# Altium schematic symbol library Connectors.SchLib: 37 symbols
Pins are listed as number, name and electrical type; pins without a type are passive.

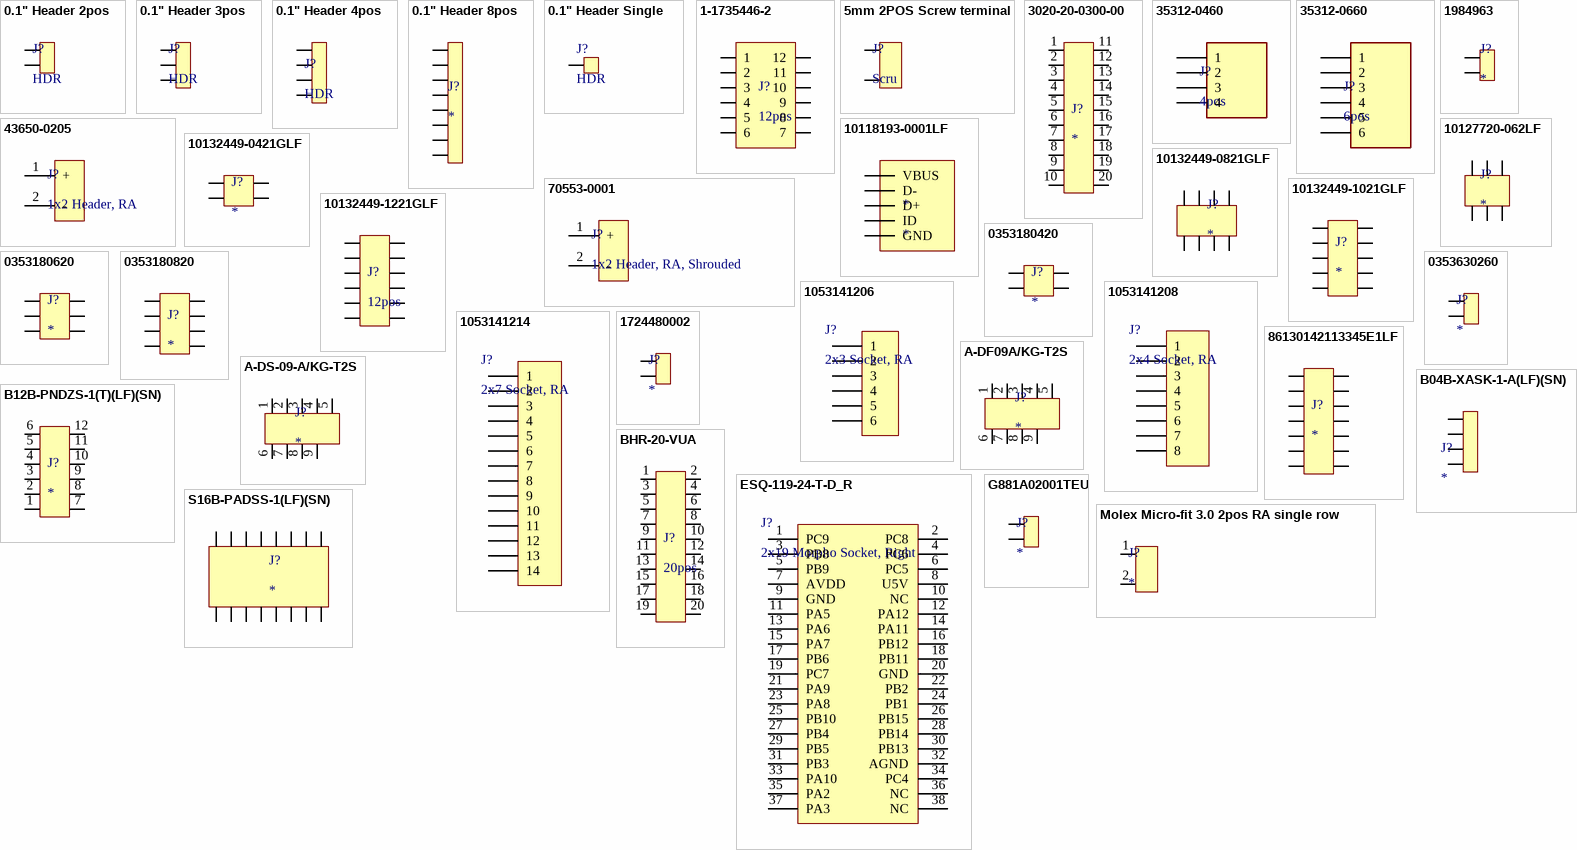
[diagram p0: symbols 0.1" Header 2pos to S16B-PADSS-1(LF)(SN)]

## 0.1" Header 2pos
designator J?, comment HDR
footprint 0.1" Header 2pos
pins: 1, 2

## 0.1" Header 3pos
designator J?, comment HDR
footprint 0.1" Header 3pos
pins: 1, 2, 3

## 0.1" Header 4pos
designator J?, comment HDR
footprint 0.1" Header 4pos
pins: 1, 2, 3, 4

## 0.1" Header 8pos
designator J?
footprint 0.1" Header 8pos
pins: 1, 2, 3, 4, 5, 6, 7, 8

## 0.1" Header Single
designator J?, comment HDR
footprint 0.1" Header 1pos
pins: 1

## 1-1735446-2
designator J?, comment 12pos
CONN HEADR 12PS 2MM VERT W/LATCH; Manufacturer: TE Connectivity; Manufacturer Part Number: 1-1735446-2; Number of Contacts: 12; Connector Type: Plug,Header,Pin; Wire/Cable Type: Discrete; Backwall/Post Interruptions: No (Without); Connector System: Wire-to-Board; Plating Thickness: 2.03um; Mating Retention: Yes (With); Contact Current Rating: 3A; PCB Mount Retention: With; PCB Mounting Orientation: Vertical; Pitch: 0.079inch; PCB Thickness: 1.6mm; Tail Length: 3.4mm; Contact Post Length: 0.134inch; Wire/Cable Gauge: 30AWG; Supplier 1: Digi-Key; Supplier Part Number 1: A100106-ND; RoHS: Yes; Category: Headers and Wire Housings; Stock 1: 38491; Mount: Through Hole; Contact Plating: Tin,Bright; Contact Material: Copper Alloy; Color: Natural; Housing Material: Thermoplastic; Contact Shape: Square; Housing Color: Natural; Min Operating Temperature: -25°C; Max Operating Temperature: 85°C; Number of Rows: 1; Termination: Through Hole; Contact Gender: Male; Package Quantity: 200; Packaging: Bag; Number of Positions: 12; Contact Retention: No (Without); PCB Mount Alignment: No (Without); Sealable: No (Without); Selectively Loaded: No (Without); Strain Relief: No (Without); Orientation: Straight; Length: 26mm; Height: 0.239inch; Contact Mating Length: 0.131inch; Width: 4.7mm; Radiation Hardening: No; Flammability Rating: UL94 V-0; ComponentLink1URL: https://datasheet.ciiva.com/11753/0900766b80f80743-11753693.pdf?src-supplier=RSComponents; ComponentLink1Description: https://datasheet.ciiva.com/11753/0900766b80f80743-11753693.pdf?src-supplier=RSComponents; ComponentLink2URL: https://datasheet.ciiva.com/732/eng-cd-1735446-c1-732557.pdf?src-supplier=Digi-Key; ComponentLink2Description: https://datasheet.ciiva.com/732/eng-cd-1735446-c1-732557.pdf?src-supplier=Digi-Key
footprint 1-1735446-2
pins: 1, 2, 3, 4, 5, 6, 7, 8, 9, 10, 11, 12

## 5mm 2POS Screw terminal
designator J?, comment Scru
footprint 5mm 2POS Screw terminal
pins: 1, 2

## 3020-20-0300-00
designator J?
CONN HEADER SMD 20POS 2.54MM
footprint 3020-20-0300-00
pins: 1, 2, 3, 4, 5, 6, 7, 8, 9, 10, 11, 12, 13, 14, 15, 16, 17, 18, 19, 20

## 35312-0460
designator J?, comment 4pos
GLOVE, POLYAMIDE, L/FREE, PU, SIZE 6 - More Details; Manufacturer: Molex; Manufacturer Part Number: 35312-0460; Number of Positions: 4; Contact Resistance: 20mR; Gender: Male; Current Rating: 3A; Voltage Rating: 250V; Pitch: 2.5mm; Contact Post Length: 3.4mm; Glow Wire Compliant: Non-compliant; Supplier 1: Digi-Key; Supplier Part Number 1: WM14766-ND; RoHS: Yes; Category: Headers and Wire Housings; Stock 1: 24375; Mount: Through Hole; Contact Material: Brass; Housing Material: Nylon; Contact Plating: Tin; Min Operating Temperature: -40°C; Max Operating Temperature: 105°C; Orientation: Vertical; Packaging: Bulk; Termination: Solder; Number of Contacts: 4; Number of Rows: 1; Package Quantity: 1000; Number of Circuits: 4; Contact Gender: Male; ComponentLink1URL: https://datasheet.ciiva.com/30061/206160353120460-pcb-headers-30061088.pdf?src-supplier=Onlinecomponents.com; ComponentLink1Description: https://datasheet.ciiva.com/30061/206160353120460-pcb-headers-30061088.pdf?src-supplier=Onlinecomponents.com; ComponentLink2URL: https://datasheet.ciiva.com/5152/0353120460-pcb-headers-163157-5152900.pdf?src-supplier=Mouser; ComponentLink2Description: https://datasheet.ciiva.com/5152/0353120460-pcb-headers-163157-5152900.pdf?src-supplier=Mouser; ComponentLink3URL: https://datasheet.ciiva.com/16102/275790353120460-pcb-headers-16102159.pdf?src-supplier=Onlinecomponents.com; ComponentLink3Description: https://datasheet.ciiva.com/16102/275790353120460-pcb-headers-16102159.pdf?src-supplier=Onlinecomponents.com
footprint 35312-0460
pins: 1, 2, 3, 4

## 35312-0660
designator J?, comment 6pos
2.50mm Pitch Header, Vertical, Shrouded, with Positive Lock, 6 Circuits, PA Polyamide (Nylon) 6/6, Glass-filled, Natural; Manufacturer: Molex; Manufacturer Part Number: 35312-0660; Number of Positions: 6; Contact Resistance: 20mR; Current Rating: 3A; Voltage Rating: 250V; Pitch: 2.5mm; Glow Wire Compliant: Non-compliant; Supplier 1: Digi-Key; Supplier Part Number 1: WM14768-ND; RoHS: Yes; Category: Headers and Wire Housings; Stock 1: 16847; Mount: Through Hole; Contact Plating: Tin; Housing Material: Nylon; Min Operating Temperature: -40°C; Max Operating Temperature: 105°C; Termination: Solder; Number of Contacts: 6; Packaging: Bulk; Package Quantity: 1000; Number of Rows: 1; Orientation: Vertical; Number of Circuits: 6; ComponentLink1URL: https://datasheet.ciiva.com/30184/251310353120660-pcb-headers-30184330.pdf?src-supplier=Onlinecomponents.com; ComponentLink1Description: https://datasheet.ciiva.com/30184/251310353120660-pcb-headers-30184330.pdf?src-supplier=Onlinecomponents.com; ComponentLink2URL: https://datasheet.ciiva.com/5158/0353120660-pcb-headers-163350-5158417.pdf?src-supplier=Mouser; ComponentLink2Description: https://datasheet.ciiva.com/5158/0353120660-pcb-headers-163350-5158417.pdf?src-supplier=Mouser
footprint 35312-0660
pins: 1, 2, 3, 4, 5, 6

## 43650-0205
designator J?, comment 1x2 Header, RA
HEADER, RIGHT ANGLE, 2WAY; Manufacturer: Molex; Manufacturer Part Number: 43650-0205; Number of Positions: 2; Voltage Rating: 600V; Current Rating: 5A; Gender: Male; Pitch: 3mm; Glow Wire Compliant: Compliant; Supplier 1: Digi-Key; Supplier Part Number 1: WM17581-ND; Stock 1: 2695; Pricing 1: 1 = 1.44000, 10 = 1.30500, 100 = 1.11870, 500 = 0.93222, 3927 = 0.74578, 7854 = 0.70849, 11781 = 0.69251 (USD); RoHS: Yes; Contact Material: Brass; Contact Plating: Gold; Housing Material: Thermoplastic; Number of Rows: 1; Packaging: Tray; Termination: Through Hole; Number of Contacts: 2; Orientation: Right Angle; Package Quantity: 3927; Number of Circuits: 2; Halogen Free: Low Halogen; ComponentLink1URL: http://www.farnell.com/cad/153635.pdf?src-supplier=Element14; ComponentLink1Description: http://www.farnell.com/cad/153635.pdf?src-supplier=Element14; ComponentLink2URL: http://www.molex.com/webdocs/datasheets/pdf/en-us/0436500205_PCB_HEADERS.pdf?src-supplier=Avnet; ComponentLink2Description: http://www.molex.com/webdocs/datasheets/pdf/en-us/0436500205_PCB_HEADERS.pdf?src-supplier=Avnet; ComponentLink3URL: http://www.molex.com/webdocs/datasheets/pdf/en-us/0436500205_PCB_HEADERS.pdf?src-supplier=Avnet+Europe; ComponentLink3Description: http://www.molex.com/webdocs/datasheets/pdf/en-us/0436500205_PCB_HEADERS.pdf?src-supplier=Avnet+Europe; ComponentLink4URL: http://www.mouser.com/ds/2/276/0436500205_PCB_HEADERS-148686.pdf?src-supplier=Mouser; ComponentLink4Description: http://www.mouser.com/ds/2/276/0436500205_PCB_HEADERS-148686.pdf?src-supplier=Mouser; Category: Connectors; ComponentLink5Description: Digikey; ComponentLink5URL: https://www.digikey.com/products/en?WT.z_cid=sp_900_0310_buynow&keywords=436500205
footprint Right Angle Header 43650-0205(Primary)
pins: 1 +, 2 -

## 70553-0001
designator J?, comment 1x2 Header, RA, Shrouded
Headers & Wire Housings R/A HDR 2P low profile single; Manufacturer: Molex; Manufacturer Part Number: 70553-0001; Number of Positions: 2; Gender: Male; Contact Resistance: 30mR; Current Rating: 3A; Voltage Rating: 250V; Insulation Resistance: 1GR; Pitch: 2.54mm; Approvals: UL; Glow Wire Compliant: Non-compliant; Supplier 1: Digi-Key; Supplier Part Number 1: WM4900-ND; Stock 1: 15280; Pricing 1: 1 = 0.71000, 72 = 0.53486, 144 = 0.51264, 504 = 0.44575, 1008 = 0.36775, 5040 = 0.32318, 10008 = 0.30089 (USD); RoHS: Yes; Mount: Through Hole; Color: Black; Housing Color: Black; Housing Material: Thermoplastic; Contact Material: Bronze; Contact Plating: Gold; Material: Brass; Min Operating Temperature: -40°C; Max Operating Temperature: 105°C; Number of Rows: 1; Packaging: Rail/Tube; Termination: Through Hole; Number of Contacts: 2; Orientation: Right Angle; Package Quantity: 2880; Number of Circuits: 2; Voltage Rating (DC): 250V; Radiation Hardening: No; Lead Free: Lead Free; REACH SVHC: Unknown; ELV: Compliant; Flammability Rating: UL94 V-0; ComponentLink1URL: https://datasheet.ciiva.com/5158/0705530001-pcb-headers-172944-5158768.pdf?src-supplier=Mouser; ComponentLink1Description: https://datasheet.ciiva.com/5158/0705530001-pcb-headers-172944-5158768.pdf?src-supplier=Mouser; ComponentLink2URL: https://datasheet.ciiva.com/11746/0900766b80d8d649-11746625.pdf?src-supplier=RSComponents; ComponentLink2Description: https://datasheet.ciiva.com/11746/0900766b80d8d649-11746625.pdf?src-supplier=RSComponents; ComponentLink3URL: https://datasheet.ciiva.com/16657/0705530001-pcb-headers-16657777.pdf?src-supplier=Avnet+Europe; ComponentLink3Description: https://datasheet.ciiva.com/16657/0705530001-pcb-headers-16657777.pdf?src-supplier=Avnet+Europe; ComponentLink4URL: https://datasheet.ciiva.com/7920/ps-70541-7920854.pdf?src-supplier=Element14; ComponentLink4Description: https://datasheet.ciiva.com/7920/ps-70541-7920854.pdf?src-supplier=Element14; ComponentLink5URL: https://datasheet.ciiva.com/30195/179180705530001-pcb-headers-30195548.pdf?src-supplier=Onlinecomponents.com; ComponentLink5Description: https://datasheet.ciiva.com/30195/179180705530001-pcb-headers-30195548.pdf?src-supplier=Onlinecomponents.com; ComponentLink6URL: https://datasheet.ciiva.com/1438/1887076-1438989.pdf?src-supplier=Element14; ComponentLink6Description: https://datasheet.ciiva.com/1438/1887076-1438989.pdf?src-supplier=Element14; ComponentLink7URL: https://datasheet.ciiva.com/10090/0705530001-pcb-headers-10090317.pdf?src-supplier=Avnet; ComponentLink7Description: https://datasheet.ciiva.com/10090/0705530001-pcb-headers-10090317.pdf?src-supplier=Avnet; Category: Connectors; ComponentLink8Description: Digikey; ComponentLink8URL: https://www.digikey.com/product-detail/en/molex/0705530001/WM4900-ND/114951
footprint MOLEX_0705530001
pins: 1 +, 2 -

## 1984963
designator J?
Fixed Terminal Blocks PTSA 1.5/ 2-3.5-F; Manufacturer: Phoenix Contact; Manufacturer Part Number: 1984963; Max Current Rating: 2A; Number of Levels: 1; Number of Positions Per Level: 2; Max Supply Voltage: 250V; Voltage: 300V; Voltage Rating: 200V; Pitch: 3.5mm; Wire Gauge (Max): 20AWG; Wire Gauge (Min): 16AWG; Stripping Length: 8mm; Approvals: UL,VDE; Supplier 1: Digi-Key; RoHS: Yes; Category: Terminal Blocks; Stock 1: 6713; Pricing 1: 1=0.32000, 10=0.30200, 50=0.28880, 100=0.28090, 250=0.26252, 500=0.24150, 1000=0.22313 (USD); Mount: Through Hole; Weight: 0.038096oz; Material: Nylon; Color: Green; Housing Color: Green; Housing Material: Polyamide; Number of Rows: 1; Current: 2A; Termination: Solder; Number of Positions: 2; Package Quantity: 250; Number of Contacts: 2; Number of Circuits: 2; Packaging: Bulk; Number of Poles: 2; Current Rating: 2A; Length: 8.5mm; Height: 13.1mm; Depth: 12mm; Wire/Cable Gauge: 16AWG; Radiation Hardening: No; Lead Free: Lead Free; Flammability Rating: UL94 V-2; ComponentLink1URL: https://datasheet.ciiva.com/26840/getdatasheetpartid-743885-26840594.pdf?src-supplier=Verical; ComponentLink1Description: https://datasheet.ciiva.com/26840/getdatasheetpartid-743885-26840594.pdf?src-supplier=Verical; ComponentLink2URL: https://datasheet.ciiva.com/11758/0900766b811d406b-11758598.pdf?src-supplier=RSComponents; ComponentLink2Description: https://datasheet.ciiva.com/11758/0900766b811d406b-11758598.pdf?src-supplier=RSComponents; ComponentLink3URL: https://datasheet.ciiva.com/16047/1984963-16047355.pdf?src-supplier=Onlinecomponents.com; ComponentLink3Description: https://datasheet.ciiva.com/16047/1984963-16047355.pdf?src-supplier=Onlinecomponents.com; ComponentLink4URL: https://datasheet.ciiva.com/29312/788717-da-01-de-printklemme-1984963-250-st-29312426.pdf?src-supplier=Conrad; ComponentLink4Description: https://datasheet.ciiva.com/29312/788717-da-01-de-printklemme-1984963-250-st-29312426.pdf?src-supplier=Conrad; ComponentLink5URL: https://datasheet.ciiva.com/6746/combiconspring-cagepcbterm-blocks-6746182.pdf?src-supplier=Digi-Key; ComponentLink5Description: https://datasheet.ciiva.com/6746/combiconspring-cagepcbterm-blocks-6746182.pdf?src-supplier=Digi-Key; ComponentLink6URL: https://datasheet.ciiva.com/14611/70055080-14611100.pdf?src-supplier=Allied+Electronics; ComponentLink6Description: https://datasheet.ciiva.com/14611/70055080-14611100.pdf?src-supplier=Allied+Electronics; Supplier Part Number 1: 277-6354-ND
footprint 1984963 (Terminal block 3.5mm pitch)
pins: 1, 2

## 10118193-0001LF
designator *
CONN USB MICRO B RECPT SMT R/A; Manufacturer: Amphenol FCI; Manufacturer Part Number: 10118193-0001LF; Gender: Female; Connector Type: USB,Receptacle; Number of Contacts: 5; Number of Ports: 1; Current Rating: 1.8A; Insulation Resistance: 1GR; Max Voltage Rating (AC): 100V; Pitch: 0.65mm; Supplier 1: Digi-Key; RoHS: Yes; Category: USB Connectors; Stock 1: 147350; Pricing 1: 1=0.43000, 10=0.40500, 25=0.36480, 50=0.32420, 100=0.31070, 250=0.28368, 500=0.27016 (USD); Mount: Surface Mount,Horizontal; Contact Plating: Gold; Contact Material: Copper Alloy; Color: Black; Number of Terminals: 5; Housing Material: Polymer; Min Operating Temperature: -55°C; Max Operating Temperature: 85°C; Termination: Solder; Packaging: Tape and Reel; Orientation: Right Angle; Package Quantity: 1200; Voltage Rating: 100V; Features: Shielded; Length: 7.86mm; Depth: 5.67mm; Radiation Hardening: No; Flammability Rating: UL94 V-0; ComponentLink1URL: https://datasheet.ciiva.com/851/10118193-851106.pdf?src-supplier=Digi-Key; ComponentLink1Description: https://datasheet.ciiva.com/851/10118193-851106.pdf?src-supplier=Digi-Key; ComponentLink2URL: https://datasheet.ciiva.com/14802/10118193-0001lf-webpage-14802386.pdf?src-supplier=Arrow; ComponentLink2Description: https://datasheet.ciiva.com/14802/10118193-0001lf-webpage-14802386.pdf?src-supplier=Arrow; ComponentLink3URL: https://datasheet.ciiva.com/26853/getdatasheetpartid-418618-26853893.pdf?src-supplier=Verical; ComponentLink3Description: https://datasheet.ciiva.com/26853/getdatasheetpartid-418618-26853893.pdf?src-supplier=Verical; ComponentLink4URL: https://datasheet.ciiva.com/4598/10118193ac-197151-4598799.pdf?src-supplier=Mouser; ComponentLink4Description: https://datasheet.ciiva.com/4598/10118193ac-197151-4598799.pdf?src-supplier=Mouser; ComponentLink5URL: https://datasheet.ciiva.com/851/10118193-851107.pdf?src-supplier=Digi-Key; ComponentLink5Description: https://datasheet.ciiva.com/851/10118193-851107.pdf?src-supplier=Digi-Key; ComponentLink6URL: https://datasheet.ciiva.com/851/10118193-851108.pdf?src-supplier=Digi-Key; ComponentLink6Description: https://datasheet.ciiva.com/851/10118193-851108.pdf?src-supplier=Digi-Key; ComponentLink7URL: https://datasheet.ciiva.com/14618/70236827-14618887.pdf?src-supplier=Allied+Electronics; ComponentLink7Description: https://datasheet.ciiva.com/14618/70236827-14618887.pdf?src-supplier=Allied+Electronics; Supplier Part Number 1: 609-4616-1-ND
footprint USB Micro B
pins: 1 VBUS, 2 D-, 3 D+, 4 ID, 5 GND

## 10127720-062LF
designator J?
Micro-fit 3.0 6pos right-angle; Manufacturer: Molex; Manufacturer Part Number: 43045-0612; Number of Positions: 6; Number of Ports: 1; Gender: Male; Current Rating: 5A; Voltage Rating: 250V; Contact Resistance: 10mR; Max Voltage Rating (DC): 250.25kV; Pitch: 3mm; Glow Wire Compliant: Compliant; Approvals: UL,CSA,TUV; RoHS: Yes; Category: Headers and Wire Housings; Stock 1: 8230; Mount: Through Hole; Case/Package: 0612; Housing Material: Polymer; Housing Color: Black; Contact Material: Brass,Tin; Contact Plating: Tin; Color: Black; Number of Terminals: 6; Material: Thermoplastic; Min Operating Temperature: -40°C; Max Operating Temperature: 105°C; Termination: Solder; Number of Contacts: 6; Orientation: Vertical; Number of Rows: 2; Packaging: Tray; Number of Circuits: 6; Package Quantity: 1728; Max Current Rating: 5A; Diameter: 3mm; Length: 13.15mm; Height: 9.91mm; Row Spacing: 3mm; Depth: 8.77mm; Radiation Hardening: No; Flammability Rating: UL94 V-0; Halogen Free: Low Halogen; Lead Free: Lead Free; REACH SVHC: Unknown; ComponentLink1URL: https://datasheet.ciiva.com/30194/128550430450612-pcb-headers-30194512.pdf?src-supplier=Onlinecomponents.com; ComponentLink1Description: https://datasheet.ciiva.com/30194/128550430450612-pcb-headers-30194512.pdf?src-supplier=Onlinecomponents.com; ComponentLink2URL: https://datasheet.ciiva.com/5159/0430450612-pcb-headers-142990-5159553.pdf?src-supplier=Mouser; ComponentLink2Description: https://datasheet.ciiva.com/5159/0430450612-pcb-headers-142990-5159553.pdf?src-supplier=Mouser; ComponentLink3URL: https://datasheet.ciiva.com/11748/0900766b800bd7d2-11748707.pdf?src-supplier=RSComponents; ComponentLink3Description: https://datasheet.ciiva.com/11748/0900766b800bd7d2-11748707.pdf?src-supplier=RSComponents; ComponentLink4URL: https://datasheet.ciiva.com/19462/883464-19462371.pdf?src-supplier=Jameco; ComponentLink4Description: https://datasheet.ciiva.com/19462/883464-19462371.pdf?src-supplier=Jameco; ComponentLink5URL: https://datasheet.ciiva.com/16658/0430450612-pcb-headers-16658411.pdf?src-supplier=Avnet+Europe; ComponentLink5Description: https://datasheet.ciiva.com/16658/0430450612-pcb-headers-16658411.pdf?src-supplier=Avnet+Europe; ComponentLink6URL: https://datasheet.ciiva.com/20209/22-3730e-20209515.pdf?src-supplier=Rapid+Electronics; ComponentLink6Description: https://datasheet.ciiva.com/20209/22-3730e-20209515.pdf?src-supplier=Rapid+Electronics; ComponentLink7URL: https://datasheet.ciiva.com/9468/0430450612-pcb-headers-9468492.pdf?src-supplier=Avnet; ComponentLink7Description: https://datasheet.ciiva.com/9468/0430450612-pcb-headers-9468492.pdf?src-supplier=Avnet; Supplier 1: Digi-Key; Supplier Part Number 1: WM1815-ND
footprint Micro-Fit 3.0 6pos
pins: 1, 2, 3, 4, 5, 6

## 10132449-0421GLF
designator J?
Micro-fit 3.0 4pos right-angle; Manufacturer: Molex; Manufacturer Part Number: 43045-0400; Contact Resistance: 10mR; Number of Positions: 4; Max Voltage Rating (AC): 250V; Connector Type: Male Pin; Pitch: 3mm; Row Spacing: 0.118inch; Supplier 1: Digi-Key; Supplier Part Number 1: WM1814-ND; RoHS: Yes; Category: Headers and Wire Housings; Stock 1: 27642; Mount: Through Hole; Housing Color: Black; Contact Plating: Tin; Contact Material: Brass; Color: Black; Housing Material: Polymer; Min Operating Temperature: -40°C; Max Operating Temperature: 105°C; Number of Rows: 2; Orientation: Right Angle; Packaging: Tray; Fastening Type: Ramp; Termination: Solder; Number of Contacts: 4; Length: 10.15mm; Depth: 12.2mm; Flammability Rating: UL94 V-0; ComponentLink1URL: https://datasheet.ciiva.com/712/430450200-sd-712017.pdf?src-supplier=Digi-Key; ComponentLink1Description: https://datasheet.ciiva.com/712/430450200-sd-712017.pdf?src-supplier=Digi-Key; ComponentLink2URL: https://datasheet.ciiva.com/20209/22-3744e-20209522.pdf?src-supplier=Rapid+Electronics; ComponentLink2Description: https://datasheet.ciiva.com/20209/22-3744e-20209522.pdf?src-supplier=Rapid+Electronics; ComponentLink3URL: https://datasheet.ciiva.com/30193/145420430450400-pcb-headers-30193310.pdf?src-supplier=Onlinecomponents.com; ComponentLink3Description: https://datasheet.ciiva.com/30193/145420430450400-pcb-headers-30193310.pdf?src-supplier=Onlinecomponents.com; ComponentLink4URL: https://datasheet.ciiva.com/11746/0900766b80027348-11746988.pdf?src-supplier=RSComponents; ComponentLink4Description: https://datasheet.ciiva.com/11746/0900766b80027348-11746988.pdf?src-supplier=RSComponents
footprint Micro-Fit 3.0 4pos
pins: 1, 2, 3, 4

## 10132449-0821GLF
designator J?
Micro-fit 3.0 8pos right-angle; Manufacturer: Molex; Manufacturer Part Number: 43045-0800; Number of Positions: 8; Contact Resistance: 10mR; Gender: Male; Working Voltage: 250V; Max Voltage Rating (DC): 250.25kV; Current Rating: 5A; Voltage Rating: 600V; Insulation Resistance: 1GR; Pitch: 3mm; Approvals: UL,CSA,TUV; Glow Wire Compliant: Compliant; Supplier 1: Digi-Key; Supplier Part Number 1: WM1816-ND; RoHS: Yes; Category: Headers and Wire Housings; Stock 1: 7880; Mount: Through Hole; Case/Package: SMC; Housing Color: Black; Housing Material: Thermoplastic; Contact Plating: Tin; Contact Material: Brass,Tin; Color: Black; Material: Polyester; Min Operating Temperature: -40°C; Max Operating Temperature: 105°C; Termination: Solder; Number of Contacts: 8; Orientation: Right Angle; Number of Rows: 2; Packaging: Tray; Number of Circuits: 8; Number of Poles: 8; Voltage Rating (AC): 250V; Package Quantity: 1440; Max Current Rating: 5A; Voltage Rating (DC): 250V; Diameter: 3mm; Length: 16.15mm; Height: 8.77mm; Row Spacing: 3mm; Depth: 12.2mm; Radiation Hardening: No; Flammability Rating: UL94 V-0; REACH SVHC: Unknown; Halogen Free: Low Halogen; Lead Free: Lead Free; ComponentLink1URL: https://datasheet.ciiva.com/5158/0430450800-pcb-headers-142625-5158817.pdf?src-supplier=Mouser; ComponentLink1Description: https://datasheet.ciiva.com/5158/0430450800-pcb-headers-142625-5158817.pdf?src-supplier=Mouser; ComponentLink2URL: https://datasheet.ciiva.com/7683/27645-7683683.pdf?src-supplier=Element14; ComponentLink2Description: https://datasheet.ciiva.com/7683/27645-7683683.pdf?src-supplier=Element14; ComponentLink3URL: https://datasheet.ciiva.com/11751/0900766b80027348-11751142.pdf?src-supplier=RSComponents; ComponentLink3Description: https://datasheet.ciiva.com/11751/0900766b80027348-11751142.pdf?src-supplier=RSComponents; ComponentLink4URL: https://datasheet.ciiva.com/30198/267770430450800-pcb-headers-30198875.pdf?src-supplier=Onlinecomponents.com; ComponentLink4Description: https://datasheet.ciiva.com/30198/267770430450800-pcb-headers-30198875.pdf?src-supplier=Onlinecomponents.com; ComponentLink5URL: https://datasheet.ciiva.com/19462/883536-19462164.pdf?src-supplier=Jameco; ComponentLink5Description: https://datasheet.ciiva.com/19462/883536-19462164.pdf?src-supplier=Jameco; ComponentLink6URL: https://datasheet.ciiva.com/14155/04402310-14155206.pdf?src-supplier=Distrelec; ComponentLink6Description: https://datasheet.ciiva.com/14155/04402310-14155206.pdf?src-supplier=Distrelec; ComponentLink7URL: https://datasheet.ciiva.com/16657/0430450800-pcb-headers-16657964.pdf?src-supplier=Avnet+Europe; ComponentLink7Description: https://datasheet.ciiva.com/16657/0430450800-pcb-headers-16657964.pdf?src-supplier=Avnet+Europe; ComponentLink8URL: https://datasheet.ciiva.com/10087/0430450800-pcb-headers-10087853.pdf?src-supplier=Avnet; ComponentLink8Description: https://datasheet.ciiva.com/10087/0430450800-pcb-headers-10087853.pdf?src-supplier=Avnet; ComponentLink9URL: https://datasheet.ciiva.com/1443/1850016-1443537.pdf?src-supplier=Element14; ComponentLink9Description: https://datasheet.ciiva.com/1443/1850016-1443537.pdf?src-supplier=Element14
footprint Micro-Fit 3.0 8pos
pins: 1, 2, 3, 4, 5, 6, 7, 8

## 10132449-1021GLF
designator J?
Conn Power HDR 10 POS 4.2mm Solder RA Thru-Hole 10 Terminal 1 Port Mini-Fit® Bag; Manufacturer: Molex; Manufacturer Part Number: 0353180820; Number of Positions: 8; Number of Ports: 1; Connector Type: Male Pin; Row Spacing: 0.165inch; Supplier 1: Digi-Key; Supplier Part Number 1: WM13197-ND; RoHS: Yes; Category: Headers and Wire Housings; Stock 1: 1454; Mount: Through Hole; Contact Plating: Tin; Housing Material: Nylon; Number of Terminals: 8; Contact Material: Brass; Color: Natural; Min Operating Temperature: -40°C; Max Operating Temperature: 105°C; Termination: Solder; Number of Contacts: 8; Package Quantity: 2500; Number of Rows: 2; Packaging: Bulk; Orientation: Right Angle; Fastening Type: Ramp; Length: 18mm; Pitch: 4.2mm; Contact Mating Length: 0.208inch; ComponentLink1URL: https://datasheet.ciiva.com/6840/353180820-sd-6840231.pdf?src-supplier=Digi-Key; ComponentLink1Description: https://datasheet.ciiva.com/6840/353180820-sd-6840231.pdf?src-supplier=Digi-Key
footprint Micro-Fit 3.0 10pos
pins: 1, 2, 3, 4, 5, 6, 7, 8, 9, 10

## 10132449-1221GLF
designator J?, comment 12pos
Micro-fit 3.0 12pos right-angle; Manufacturer: Amphenol FCI; Manufacturer Part Number: 10132449-1221GLF; Supplier 1: Digi-Key; Supplier Part Number 1: 609-5289-ND; RoHS: No; Category: Connectors; Stock 1: 1929
footprint Micro-Fit 3.0 12pos
pins: 1, 2, 3, 4, 5, 6, 7, 8, 9, 10, 11, 12

## 0353180420
designator J?
Conn Power HDR 4 POS 4.2mm Solder RA Thru-Hole 4 Terminal 1 Port Mini-Fit® Bag; Manufacturer: Molex; Manufacturer Part Number: 0353180420; Number of Positions: 4; Number of Ports: 1; Connector Type: Male Pin; Row Spacing: 0.165inch; Supplier 1: Digi-Key; Supplier Part Number 1: WM13195-ND; RoHS: Yes; Category: Headers and Wire Housings; Stock 1: 17776; Mount: Through Hole; Contact Material: Brass; Contact Plating: Tin; Housing Material: Nylon; Color: Natural; Number of Terminals: 4; Min Operating Temperature: -40°C; Max Operating Temperature: 105°C; Orientation: Right Angle; Number of Rows: 2; Packaging: Bulk; Termination: Solder; Number of Contacts: 4; Package Quantity: 5000; Fastening Type: Ramp; Length: 9.6mm; Pitch: 4.2mm; Contact Mating Length: 0.208inch; Depth: 12.8mm; ComponentLink1URL: https://datasheet.ciiva.com/6840/353180820-sd-6840231.pdf?src-supplier=Digi-Key; ComponentLink1Description: https://datasheet.ciiva.com/6840/353180820-sd-6840231.pdf?src-supplier=Digi-Key
footprint Mini-fit Jr. 4pos
pins: 1, 2, 3, 4

## 0353180620
designator J?
Conn Power HDR 6 POS 4.2mm Solder RA Thru-Hole 6 Terminal 1 Port Mini-Fit® Bag; Manufacturer: Molex; Manufacturer Part Number: 0353180620; Number of Positions: 6; Number of Ports: 1; Connector Type: Male Pin; Row Spacing: 0.165inch; Supplier 1: Digi-Key; Supplier Part Number 1: WM13196-ND; RoHS: Yes; Category: Headers and Wire Housings; Stock 1: 6631; Mount: Through Hole; Housing Material: Nylon; Contact Plating: Tin; Number of Terminals: 6; Housing Color: Natural; Color: Natural; Min Operating Temperature: -40°C; Max Operating Temperature: 105°C; Termination: Solder; Number of Contacts: 6; Orientation: Right Angle; Number of Rows: 2; Packaging: Bag; Package Quantity: 3500; Fastening Type: Ramp; Length: 13.8mm; Pitch: 4.2mm; Contact Mating Length: 0.208inch; ComponentLink1URL: https://datasheet.ciiva.com/6840/353180820-sd-6840231.pdf?src-supplier=Digi-Key; ComponentLink1Description: https://datasheet.ciiva.com/6840/353180820-sd-6840231.pdf?src-supplier=Digi-Key; ComponentLink2URL: https://datasheet.ciiva.com/26916/getdatasheetpartid-318364-26916676.pdf?src-supplier=Verical; ComponentLink2Description: https://datasheet.ciiva.com/26916/getdatasheetpartid-318364-26916676.pdf?src-supplier=Verical
footprint Mini-fit Jr. 6pos
pins: 1, 2, 3, 4, 5, 6

## 0353180820
designator J?
Conn Power HDR 8 POS 4.2mm Solder RA Thru-Hole 8 Terminal 1 Port Mini-Fit® Bag; Manufacturer: Molex; Manufacturer Part Number: 0353180820; Number of Positions: 8; Number of Ports: 1; Connector Type: Male Pin; Row Spacing: 0.165inch; Supplier 1: Digi-Key; Supplier Part Number 1: WM13197-ND; RoHS: Yes; Category: Headers and Wire Housings; Stock 1: 1454; Mount: Through Hole; Contact Plating: Tin; Housing Material: Nylon; Number of Terminals: 8; Contact Material: Brass; Color: Natural; Min Operating Temperature: -40°C; Max Operating Temperature: 105°C; Termination: Solder; Number of Contacts: 8; Package Quantity: 2500; Number of Rows: 2; Packaging: Bulk; Orientation: Right Angle; Fastening Type: Ramp; Length: 18mm; Pitch: 4.2mm; Contact Mating Length: 0.208inch; ComponentLink1URL: https://datasheet.ciiva.com/6840/353180820-sd-6840231.pdf?src-supplier=Digi-Key; ComponentLink1Description: https://datasheet.ciiva.com/6840/353180820-sd-6840231.pdf?src-supplier=Digi-Key
footprint Mini-fit Jr. 8pos
pins: 1, 2, 3, 4, 5, 6, 7, 8

## 0353630260
designator J?
CONN HEADER R/A 2POS 2MM; Manufacturer: Molex; Manufacturer Part Number: 0353630260; Number of Positions: 2; Gender: Male; Connector Type: Male Pin; Supplier 1: Digi-Key; Supplier Part Number 1: WM18931-ND; RoHS: Yes; Category: Headers and Wire Housings; Stock 1: 9478; Mount: Through Hole; Housing Material: Nylon; Housing Color: Natural; Contact Plating: Tin; Color: Natural; Min Operating Temperature: -40°C; Max Operating Temperature: 105°C; Termination: Solder; Number of Contacts: 2; Orientation: Right Angle; Number of Rows: 1; Packaging: Bulk; Fastening Type: Ramp; Length: 7.7mm; Pitch: 2mm; Depth: 8.55mm; Contact Mating Length: 0.145inch; ComponentLink1URL: https://datasheet.ciiva.com/713/353630260-sd-713822.pdf?src-supplier=Digi-Key; ComponentLink1Description: https://datasheet.ciiva.com/713/353630260-sd-713822.pdf?src-supplier=Digi-Key; ComponentLink2URL: https://datasheet.ciiva.com/3936/197020353630260-pcb-headers-3936271.pdf?src-supplier=Arrow; ComponentLink2Description: https://datasheet.ciiva.com/3936/197020353630260-pcb-headers-3936271.pdf?src-supplier=Arrow
footprint 0353630260
pins: 1, 2

## 1053141206
designator J?, comment 2x3 Socket, RA
CONN HEADER R/A 6POS 2.5MM; Manufacturer: Molex; Manufacturer Part Number: 1053141206; Gender: Male; Supplier 1: Digi-Key; Supplier Part Number 1: WM14977-ND; Stock 1: 3725; Pricing 1: 1 = 1.86000, 10 = 1.68400, 204 = 1.44314, 612 = 1.20260, 1020 = 1.03080, 5100 = 0.91398, 10200 = 0.89336 (USD); RoHS: No; Mount: Through Hole; Contact Plating: Gold; Contact Material: Brass; Color: Black; Termination: Through Hole; Number of Rows: 2; REACH SVHC: Unknown; ComponentLink1URL: http://www.farnell.com/datasheets/2221464.pdf?src-supplier=Farnell; ComponentLink1Description: http://www.farnell.com/datasheets/2221464.pdf?src-supplier=Farnell; ComponentLink2URL: http://www.farnell.com/datasheets/2059602.pdf?src-supplier=Element14; ComponentLink2Description: http://www.farnell.com/datasheets/2059602.pdf?src-supplier=Element14; ComponentLink3URL: https://www.molex.com/pdm_docs/ps/PS-105300-100-001.pdf?src-supplier=Digi-Key; ComponentLink3Description: https://www.molex.com/pdm_docs/ps/PS-105300-100-001.pdf?src-supplier=Digi-Key; Category: Connectors
footprint MOLEX 105314 6 CON
pins: 1, 2, 3, 4, 5, 6

## 1053141208
designator J?, comment 2x4 Socket, RA
CONN HEADER R/A 8POS 2.5MM; Manufacturer: Molex; Manufacturer Part Number: 1053141208; Gender: Male; Supplier 1: Digi-Key; Supplier Part Number 1: WM14978-ND; Stock 1: 3073; Pricing 1: 1 = 2.35000, 10 = 2.13500, 156 = 1.82994, 624 = 1.52495, 1092 = 1.30710, 5148 = 1.15896 (USD); RoHS: No; Mount: Through Hole; Contact Plating: Gold; Contact Material: Brass; Color: Black; Termination: Through Hole; Number of Rows: 2; REACH SVHC: Unknown; ComponentLink1URL: https://www.molex.com/pdm_docs/ps/PS-105300-100-001.pdf?src-supplier=Digi-Key; ComponentLink1Description: https://www.molex.com/pdm_docs/ps/PS-105300-100-001.pdf?src-supplier=Digi-Key; ComponentLink2URL: http://www.farnell.com/datasheets/2059602.pdf?src-supplier=Element14; ComponentLink2Description: http://www.farnell.com/datasheets/2059602.pdf?src-supplier=Element14; Category: Connectors
footprint Molex 105314 8 CON
pins: 1, 2, 3, 4, 5, 6, 7, 8

## 1053141214
designator J?, comment 2x7 Socket, RA
CONN HEADER R/A 14POS 2.5MM; Manufacturer: Molex; Manufacturer Part Number: 1053141214; Supplier 1: Digi-Key; Supplier Part Number 1: WM15164-ND; Stock 1: 970; Pricing 1: 1 = 3.04000, 90 = 2.55378, 180 = 2.43222, 540 = 2.06737, 1080 = 1.76334, 5040 = 1.58093 (USD); RoHS: No; ComponentLink1URL: https://www.molex.com/pdm_docs/ps/PS-105300-100-001.pdf?src-supplier=Digi-Key; ComponentLink1Description: https://www.molex.com/pdm_docs/ps/PS-105300-100-001.pdf?src-supplier=Digi-Key; Category: Connectors
footprint MOLEX 105314 14 CON
pins: 1, 2, 3, 4, 5, 6, 7, 8, 9, 10, 11, 12, 13, 14

## 1724480002
designator J?
CONN HEADER R/A 2POS; Manufacturer: Molex; Manufacturer Part Number: 1724480002; Connector Type: Male Pin; Number of Circuits: 2; Row Spacing: 0.165inch; Glow Wire Compliant: Compliant; Supplier 1: Digi-Key; Supplier Part Number 1: WM16206-ND; RoHS: No; Category: Headers and Wire Housings; Stock 1: 7217; Mount: Through Hole; Number of Pins: 2; Contact Plating: Tin; Color: Black; Orientation: Right Angle; Packaging: Tray; Number of Positions: 2; Number of Rows: 2; Termination: Solder; Fastening Type: Ramp; ComponentLink1URL: https://www.molex.com/pdm_docs/sd/1724480002_sd.pdf?src-supplier=Digi-Key; ComponentLink1Description: https://www.molex.com/pdm_docs/sd/1724480002_sd.pdf?src-supplier=Digi-Key
footprint Mini-fit Jr. 2pos
pins: 1, 2

## 86130142113345E1LF
designator J?
Conn Power HDR 14 POS 4.2mm Solder RA Thru-Hole 14 Terminal 1 Port Mini-Fit® Bag; Manufacturer: Molex; Manufacturer Part Number: 0353180820; Number of Positions: 8; Number of Ports: 1; Connector Type: Male Pin; Row Spacing: 0.165inch; Supplier 1: Digi-Key; Supplier Part Number 1: WM13197-ND; RoHS: Yes; Category: Headers and Wire Housings; Stock 1: 1454; Mount: Through Hole; Contact Plating: Tin; Housing Material: Nylon; Number of Terminals: 8; Contact Material: Brass; Color: Natural; Min Operating Temperature: -40°C; Max Operating Temperature: 105°C; Termination: Solder; Number of Contacts: 8; Package Quantity: 2500; Number of Rows: 2; Packaging: Bulk; Orientation: Right Angle; Fastening Type: Ramp; Length: 18mm; Pitch: 4.2mm; Contact Mating Length: 0.208inch; ComponentLink1URL: https://datasheet.ciiva.com/6840/353180820-sd-6840231.pdf?src-supplier=Digi-Key; ComponentLink1Description: https://datasheet.ciiva.com/6840/353180820-sd-6840231.pdf?src-supplier=Digi-Key
footprint Micro-Fit 3.0 14pos
pins: 1, 2, 3, 4, 5, 6, 7, 8, 9, 10, 11, 12, 13, 14

## A-DF09A/KG-T2S
designator J?
FEMALE DB9 D-SUBMINIATURE CONNECTOR, CURRENT RATING 3A, VOLTAGE RATING 250VAC; Manufacturer: Assmann; Manufacturer Part Number: A-DF09A/KG-T2S; Connector Type: D-Sub,Receptacle,Signal; Number of Positions: 9; Max Supply Voltage (AC): 250V; Number of Ports: 1; Supplier 1: Digi-Key; Supplier Part Number 1: AE10921-ND; RoHS: Yes; Category: D-Sub Connectors; Stock 1: 18258; Mount: Through Hole; Housing Material: PBT; Color: Black; Contact Plating: Gold; Contact Material: Brass; Number of Terminals: 9; Min Operating Temperature: -55°C; Max Operating Temperature: 125°C; Package Quantity: 90; Packaging: Tray; Number of Rows: 2; Current Rating: 3A; Termination: Solder; Orientation: Right Angle; Length: 30.81mm; Depth: 18.6mm; Radiation Hardening: No; Lead Free: Lead Free; ComponentLink1URL: https://datasheet.ciiva.com/26927/getdatasheetpartid-755627-26927441.pdf?src-supplier=Verical; ComponentLink1Description: https://datasheet.ciiva.com/26927/getdatasheetpartid-755627-26927441.pdf?src-supplier=Verical
footprint DB9 (Female)
pins: 1, 2, 3, 4, 5, 6, 7, 8, 9

## A-DS-09-A/KG-T2S
designator J?
MALE DB9 CONN D-SUB PLUG 9POS R/A SOLDER; Manufacturer: Assmann; Manufacturer Part Number: A-DS-09-A/KG-T2S; Connector Type: D-Sub,Plug,Signal; Number of Positions: 9; Voltage Rating: 250V; Current Rating: 3A; Supplier 1: Digi-Key; Supplier Part Number 1: AE10968-ND; RoHS: Yes; Category: D-Sub Connectors; Stock 1: 18571; Mount: Through Hole; Number of Pins: 9; Contact Plating: Gold; Housing Material: PBT; Color: Black; Min Operating Temperature: -55°C; Max Operating Temperature: 105°C; Packaging: Tray; Number of Rows: 2; Termination: Solder; ComponentLink1URL: http://www.assmann-wsw.com/fileadmin/datasheets/ASS_4888_CO.pdf?src-supplier=Digi-Key; ComponentLink1Description: http://www.assmann-wsw.com/fileadmin/datasheets/ASS_4888_CO.pdf?src-supplier=Digi-Key
footprint DB9 (Male)
pins: 1, 2, 3, 4, 5, 6, 7, 8, 9

## B04B-XASK-1-A(LF)(SN)
designator J?
XA Series 4 Position 2.5mm Pitch Top Entry with Boss ThroughHole Shrouded Header; Manufacturer 1: JST; Manufacturer Part Number 1: B04B-XASK-1-A(LF)(SN); Number of Positions: 4; Supplier 1: Arrow; Stock 1: 380; Pricing 1: 1=0.25960, 10=0.25030, 100=0.16200, 500=0.13850, 1000=0.10710, 5000=0.10160, 10000=0.10130 (USD); RoHS: Yes; Mount: Through Hole; Termination: Crimp; Pitch: 2.5mm; Lead Free: Lead Free; ComponentLink1URL: https://datasheet.ciiva.com/16500/jstb04b-xask-1-a-lf-sn-16500956.pdf?src-supplier=Future+Electronics; ComponentLink1Description: https://datasheet.ciiva.com/16500/jstb04b-xask-1-a-lf-sn-16500956.pdf?src-supplier=Future+Electronics; Supplier Part Number 1: B04B-XASK-1-A(LF)(SN)
footprint B04B-XASK-1-A
pins: 1, 2, 3, 4

## B12B-PNDZS-1(T)(LF)(SN)
designator J?
CONN HEADER VERT 12POS 2MM; Manufacturer: JST; Manufacturer Part Number: B12B-PNDZS-1(T)(LF)(SN); Number of Positions: 12; Connector Type: Male Pin; Pitch: 0.079inch; Row Spacing: 0.197inch; Supplier 1: Digi-Key; Supplier Part Number 1: 455-2324-ND; RoHS: Yes; Category: Connectors; Stock 1: 2917; Mount: Through Hole; Color: Beige; Contact Plating: Tin; Termination: Solder; Number of Rows: 2; Fastening Type: Ramp; Packaging: Tray; Lead Free: Lead Free; ComponentLink1URL: https://datasheet.ciiva.com/726/epnd-726783.pdf?src-supplier=Digi-Key; ComponentLink1Description: https://datasheet.ciiva.com/726/epnd-726783.pdf?src-supplier=Digi-Key
footprint B12B-PNDZS-1(T)(LF)(SN)
pins: 1, 2, 3, 4, 5, 6, 7, 8, 9, 10, 11, 12

## BHR-20-VUA
designator J?, comment 20pos
Conn Shrouded Header (4 Sides) HDR 20 POS 2.54mm Solder ST Top Entry Thru-Hole Tray; Manufacturer: Adam Equipment; Manufacturer Part Number: BHR-20-VUA; Current Rating: 1A; Number of Positions: 20; Supplier 1: Digi-Key; Supplier Part Number 1: 2057-BHR-20-VUA-ND; RoHS: Yes; Category: Connectors; Stock 1: 1344; Contact Material: Brass; Contact Plating: Gold; Number of Rows: 2; Packaging: Tray; Package Quantity: 216; Termination: IDC; Pitch: 2.54mm; Lead Free: Lead Free; ComponentLink1URL: https://datasheet.ciiva.com/16418/page-319-321-16418950.pdf?src-supplier=Future+Electronics; ComponentLink1Description: https://datasheet.ciiva.com/16418/page-319-321-16418950.pdf?src-supplier=Future+Electronics
footprint BHR-20-VUA
pins: 1, 2, 3, 4, 5, 6, 7, 8, 9, 10, 11, 12, 13, 14, 15, 16, 17, 18, 19, 20

## ESQ-119-24-T-D_R
designator J?, comment 2x19 Morpho Socket, Right
SAMTEC         ESQ-119-24-T-D             Board-To-Board Connector, Vertical, ESQ Series, 38 Contacts, Receptacle, 2.54 mm, Through Hole; Number of Contacts: 38; Pitch: 2.54mm; Supplier 1: Digi-Key; Supplier Part Number 1: SAM9313-ND; Manufacturer: Samtec; Manufacturer Part Number: ESQ-119-24-T-D; Stock 1: 71; Pricing 1: 1 = 5.23000, 11 = 4.42182, 110 = 3.41700, 506 = 2.81399, 1001 = 2.61300 (USD); RoHS: Yes; Mount: Through Hole; Contact Plating: Tin; Contact Material: Bronze; Number of Rows: 2; Gender: Receptacle; Termination: Solder; REACH SVHC: No SVHC; Category: Connectors
footprint ESQ-119-24-T-D (2x19 Elevated Socket)
pins: 1 PC9, 2 PC8, 3 PB8, 4 PC6, 5 PB9, 6 PC5, 7 AVDD, 8 U5V, 9 GND, 10 NC, 11 PA5, 12 PA12, 13 PA6, 14 PA11, 15 PA7, 16 PB12, 17 PB6, 18 PB11, 19 PC7, 20 GND, 21 PA9, 22 PB2, 23 PA8, 24 PB1, 25 PB10, 26 PB15, 27 PB4, 28 PB14, 29 PB5, 30 PB13, 31 PB3, 32 AGND, 33 PA10, 34 PC4, 35 PA2, 36 NC, 37 PA3, 38 NC

## G881A02001TEU
designator J?
Micro-fit 3.0 2pos right-angle; Manufacturer: Molex; Manufacturer Part Number: 0430450200; Number of Positions: 2; Contact Resistance: 10mR; Max Voltage Rating (AC): 250V; Connector Type: Male Pin; Row Spacing: 0.118inch; Pitch: 3mm; Supplier 1: Digi-Key; Supplier Part Number 1: WM1813-ND; RoHS: Yes; Category: Headers and Wire Housings; Stock 1: 9248; Mount: Through Hole; Contact Plating: Tin; Color: Black; Contact Material: Brass; Housing Material: Polymer; Housing Color: Black; Min Operating Temperature: -40°C; Max Operating Temperature: 105°C; Termination: Solder; Number of Contacts: 2; Packaging: Tray; Number of Rows: 2; Orientation: Right Angle; Fastening Type: Ramp; Length: 7.15mm; Depth: 12.2mm; Flammability Rating: UL94 V-0; ComponentLink1URL: https://datasheet.ciiva.com/712/430450200-sd-712017.pdf?src-supplier=Digi-Key; ComponentLink1Description: https://datasheet.ciiva.com/712/430450200-sd-712017.pdf?src-supplier=Digi-Key; ComponentLink2URL: https://datasheet.ciiva.com/3933/159670430450200-pcb-headers-3933176.pdf?src-supplier=Arrow; ComponentLink2Description: https://datasheet.ciiva.com/3933/159670430450200-pcb-headers-3933176.pdf?src-supplier=Arrow
footprint Micro-Fit 3.0 2pos
pins: 1, 2

## Molex Micro-fit 3.0 2pos RA single row
designator J?
MOLEX   43650-0200   HEADER, R/A, SINGLE ROW, 2 WAY
footprint Molex Micro-fit 3.0 2pos RA single row
pins: 1, 2

## S16B-PADSS-1(LF)(SN)
designator J?
JST (JAPAN SOLDERLESS TERMINALS) - S16B-PADSS-1(LF)(SN) - Wire-To-Board Connector, 2 mm, 16 Contacts, Header, PAD Series, Through Hole, 2 Rows; Gender: Male; Connector Type: Male Pin; Number of Positions: 16; Pitch: 0.079inch; Supplier 1: Digi-Key; Supplier Part Number 1: 455-2037-ND; Manufacturer: JST; Manufacturer Part Number: S16B-PADSS-1(LF)(SN); RoHS: Yes; Category: Connectors; Stock 1: 2836; Mount: Through Hole; Color: Natural; Contact Material: Copper; Contact Plating: Tin; Termination: Solder; Number of Contacts: 16; Number of Rows: 2; Fastening Type: Ramp; Packaging: Bulk; Row Spacing: 0.079inch; Lead Free: Lead Free; REACH SVHC: Unknown; ComponentLink1URL: https://datasheet.ciiva.com/726/epad-726149.pdf?src-supplier=Digi-Key; ComponentLink1Description: https://datasheet.ciiva.com/726/epad-726149.pdf?src-supplier=Digi-Key; ComponentLink2URL: https://datasheet.ciiva.com/46409/1794417-46409340.pdf?src-supplier=Element14; ComponentLink2Description: https://datasheet.ciiva.com/46409/1794417-46409340.pdf?src-supplier=Element14
footprint S16B-PADSS-1(LF)(SN)
pins: 1, 2, 3, 4, 5, 6, 7, 8, 9, 10, 11, 12, 13, 14, 15, 16